# Altium footprint library relay.PcbLib: 1 footprints
Each footprint in its own frame and in the unit in brackets; x right, y up, seen from the top. Pads: shape width x height; smd on the part's side, far side on the other; paste and mask are expansions set on the pad; w line width, h text height; cw(c..) or ccw(c..) is an arc to the next point about the centre after c.
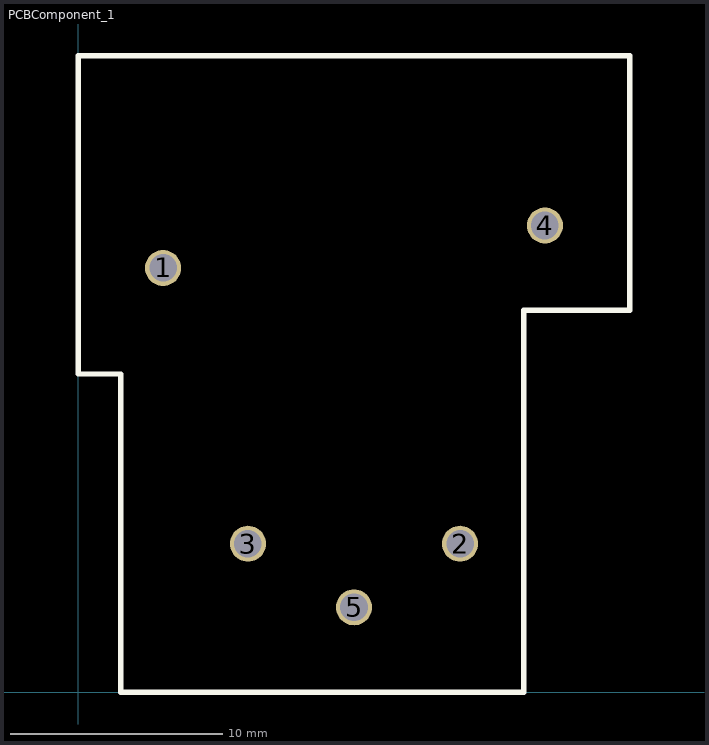
[diagram p0: the footprint, top view; thin cyan lines are the x and y axes]

## PCBComponent_1 [mm]
pads (5):
  round 1.7 hole 1.3: 1(4,20) 2(18,7) 3(8,7) 4(22,22) 5(13,4)
Top Overlay:
  lines w0.254: 7.239,0 21,0 21,18 26,18 26,30 0,30 0,15 2,15 2,0 8,0